# Altium schematic symbol library SleepTrackerPoCSchLib.SchLib: 14 symbols
Pins are listed as number, name and electrical type; pins without a type are passive.

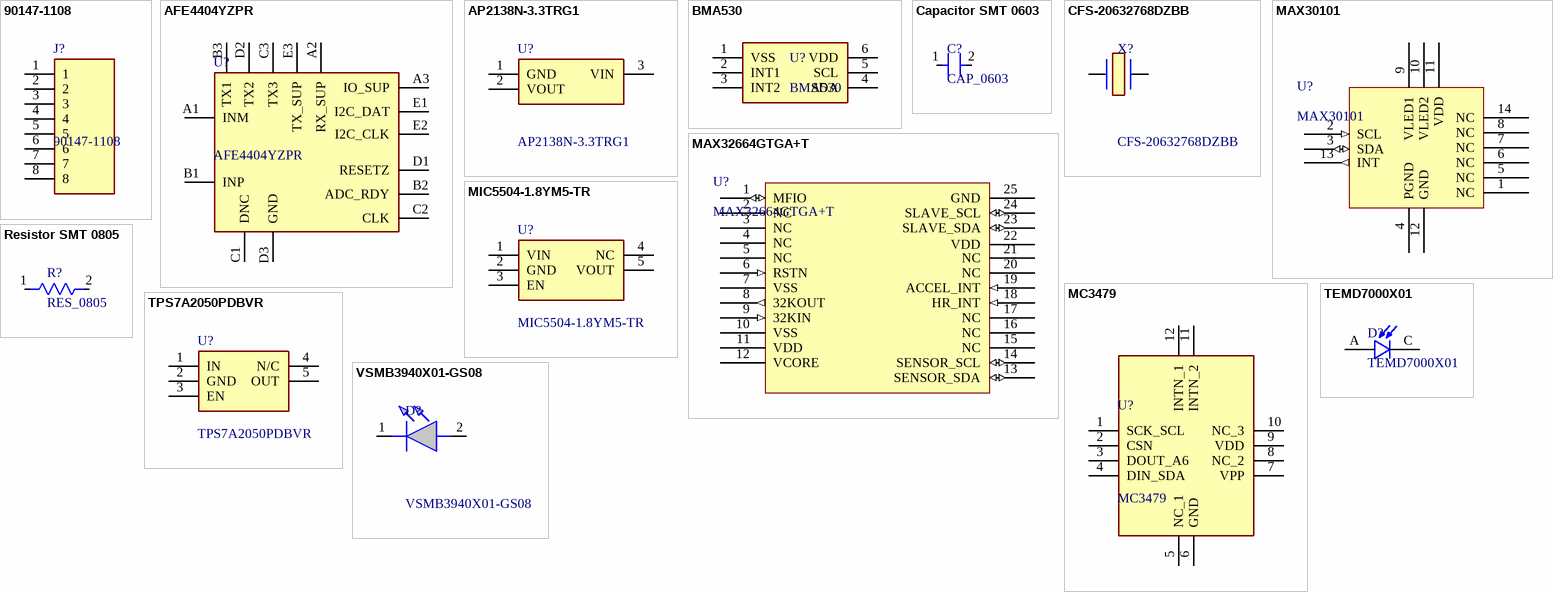
[diagram p0: symbols 90147-1108 to VSMB3940X01-GS08]

## 90147-1108
designator J?
Headers & Wire Housings 8CKT VERT SR CON; Manufacturer_Name: Molex; Geometry.Height: 8.7mm; Mouser Part Number: 538-90147-1108; Mouser Price/Stock: https://www.mouser.co.uk/ProductDetail/Molex/90147-1108?qs=QESXi79X%252BKqiwXr7kUdEeg%3D%3D; Manufacturer_Part_Number: 90147-1108; Datasheet Link: https://www.molex.com/pdm_docs/sd/901471102_sd.pdf
footprint RHDR8W70P0X254_1X8_2017X244X870P
pins: 1, 2, 3, 4, 5, 6, 7, 8

## AFE4404YZPR
designator U?
Ultra-Small Integrated AFE for Wearable, Optical Heart-Rate Monitoring and Biosensing; Manufacturer_Name: Texas Instruments; Geometry.Height: 0.5mm; Manufacturer_Part_Number: AFE4404YZPR; Datasheet Link: http://www.ti.com/lit/gpn/AFE4404
footprint BGA15C50P3X5_160X260X50
pins: A1 INM, A2 RX_SUP, A3 IO_SUP, B1 INP, B2 ADC_RDY, B3 TX1, C1 DNC, C2 CLK, C3 TX3, D1 RESETZ, D2 TX2, D3 GND, E1 I2C_DAT, E2 I2C_CLK, E3 TX_SUP

## AP2138N-3.3TRG1
designator U?
250mA 3.3V Ultra Low IQ LDO Reg. SOT23 DiodesZetex AP2138N-3.3TRG1, Low Noise LDO Voltage Regulator, 250 (Min)mA, 3.3 V +/-2%, 2.5 to 6.6 Vin, 3-Pin SOT-23; Manufacturer_Name: Diodes Incorporated; Geometry.Height: 1.45mm; Mouser Part Number: 621-AP2138N-3.3TRG1; Mouser Price/Stock: https://www.mouser.co.uk/ProductDetail/Diodes-Incorporated/AP2138N-3.3TRG1?qs=x6A8l6qLYDBcz2C%2Fey6rCQ%3D%3D; Manufacturer_Part_Number: AP2138N-3.3TRG1; Datasheet Link: https://www.diodes.com//assets/Datasheets/AP2138-9.pdf
footprint SOT95P282X145-3N
pins: 1 GND, 2 VOUT, 3 VIN

## BMA530
designator U?
Bosch BMA530 Accelerometer; Manufacturer: Bosch; Manufacturer Part Number: BMA530
footprint BMA530
pins: 1 VSS, 2 INT1, 3 INT2, 4 SDA, 5 SCL, 6 VDD

## Capacitor SMT 0603
designator C?, comment CAP_0603
Manufacturer: *; Manufacturer Part Number: *; Tolerance: *; Package Sizing: *; Voltage Rating: *
footprint CAP_0603 (Chip Capacitor, 2-Leads, Body 1.60x0.80mm, IPC Medium Density)
pins: 1, 2

## CFS-20632768DZBB
designator X?
32.768 kHz +/-20ppm Crystal 6pF 35 kOhms Cylindrical Can, Radial; Manufacturer_Name: CITIZEN FINEDEVICE; Geometry.Height: 6.2mm; Mouser Part Number: 695-CFS-20632768DZBB; Mouser Price/Stock: https://www.mouser.co.uk/ProductDetail/Citizen-FineDevice/CFS-20632768DZBB?qs=byeeYqUIh0PqzGU2nG5Zjg%3D%3D; Manufacturer_Part_Number: CFS-20632768DZBB; Datasheet Link: http://cfd.citizen.co.jp/cms/cfd/pdf/english/CFS-206_CFS-145_E.pdf
footprint CFS20632768DZBB
pins: 1, 2

## MAX30101
designator U?
Maxim Integrated MAX30101 Oximetry Sensor
footprint MAX30101 (SON, 14-Leads, Body 5.50x3.20mm, Pitch 0.80mm, IPC Medium Density)
pins: 1 NC, 2 SCL (in), 3 SDA (io), 4 PGND (power), 5 NC, 6 NC, 7 NC, 8 NC, 9 VLED1 (power), 10 VLED2 (power), 11 VDD (power), 12 GND (power), 13 INT (out), 14 NC

## MAX32664GTGA+T
designator U?
Maxim Integrated MAX32664GTGA+T Sensor Hub
footprint MAX32664 (QFN, 28-Leads, Body 3.00x3.00mm, Pitch 0.40mm, Thermal Pad 1.70x1.70mm, IPC Medium Density)
pins: 1 MFIO (io), 2 NC, 3 NC, 4 NC, 5 NC, 6 RSTN (in), 7 VSS (power), 8 32KOUT (out), 9 32KIN (in), 10 VSS (power), 11 VDD (power), 12 VCORE (power), 13 SENSOR_SDA (io), 14 SENSOR_SCL (io), 15 NC, 16 NC, 17 NC, 18 HR_INT (in), 19 ACCEL_INT (in), 20 NC, 21 NC, 22 VDD (power), 23 SLAVE_SDA (io), 24 SLAVE_SCL (io), 25 GND (power)

## MC3479
designator U?
Accelerometers Small Digital 3-axis Accelerometer Sensor; Manufacturer_Name: MEMSIC; Geometry.Height: 1mm; Mouser Part Number: 498-MC3479; Mouser Price/Stock: https://www.mouser.co.uk/ProductDetail/MEMSIC/MC3479?qs=OlC7AqGiEDmYmlaMvA9fTA%3D%3D; Manufacturer_Part_Number: MC3479; Datasheet Link: http://www.memsic.com/uploadfiles/2020/08/20200827164636363.pdf
footprint MC3479
pins: 1 SCK_SCL, 2 CSN, 3 DOUT_A6, 4 DIN_SDA, 5 NC_1, 6 GND, 7 VPP, 8 NC_2, 9 VDD, 10 NC_3, 11 INTN_2, 12 INTN_1

## MIC5504-1.8YM5-TR
designator U?
Linear Voltage Regulator IC Positive Fixed Output 1.8V 300mA SOT-23-5; Manufacturer_Name: Microchip; Geometry.Height: 1.45mm; Mouser Part Number: 998-MIC5504-1.8YM5TR; Mouser Price/Stock: https://www.mouser.co.uk/ProductDetail/Microchip-Technology/MIC5504-1.8YM5-TR?qs=U6T8BxXiZAWcKt0MaB%252BQvA%3D%3D; Manufacturer_Part_Number: MIC5504-1.8YM5-TR; Datasheet Link: http://www.microchip.com/mymicrochip/filehandler.aspx?ddocname=en580292
footprint SOT95P280X145-5N
pins: 1 VIN, 2 GND, 3 EN, 4 NC, 5 VOUT

## Resistor SMT 0805
designator R?, comment RES_0805
Manufacturer: *; Manufacturer Part Number: *; Tolerance: *; Package Sizing: *; Voltage Rating: *
footprint RES_0805
pins: 1, 2

## TEMD7000X01
designator D?
Photodiode 900nm 100ns 120Â° 0805 (2012 Metric); MF: Vishay Semiconductor; Price: None; Purchase-URL: https://pricing.snapeda.com/search/part/TEMD7000X01/?ref=eda; Value: *; Check_prices: https://www.snapeda.com/parts/TEMD7000X01/Vishay+Semiconductor+Opto+Division/view-part/?ref=eda; Package: 0805 Vishay; SnapEDA_Link: https://www.snapeda.com/parts/TEMD7000X01/Vishay+Semiconductor+Opto+Division/view-part/?ref=snap; Availability: In Stock; MP: TEMD7000X01
footprint XDCR_TEMD7000X01
pins: A, C

## TPS7A2050PDBVR
designator U?
LDO Voltage Regulators 300-mA, ultra-low-noise, low-IQ, low-dropout (LDO) linear regulator with high PSRR; Manufacturer_Name: Texas Instruments; Geometry.Height: 1.45mm; Mouser Part Number: 595-TPS7A2050PDBVR; Mouser Price/Stock: https://www.mouser.co.uk/ProductDetail/Texas-Instruments/TPS7A2050PDBVR?qs=hd1VzrDQEGgpoyZ%2F5FZYnQ%3D%3D; Manufacturer_Part_Number: TPS7A2050PDBVR; Datasheet Link: https://www.ti.com/lit/gpn/tps7a20?HQS=ti-null-null-sf-df-pf-sep-wwe&DCM=yes
footprint SOT95P280X145-5N
pins: 1 IN, 2 GND, 3 EN, 4 N/C, 5 OUT

## VSMB3940X01-GS08
designator D?
Vishay VSMB3940X01-GS08, 940nm IR LED, PLCC 2 SMD package; Geometry.Height: 1.85mm; Manufacturer_Name: Vishay; Manufacturer_Part_Number: VSMB3940X01-GS08; Datasheet Link: https://www.vishay.com/docs/81894/vsmb3940.pdf
footprint LEDM3528X185N
pins: 1 K, 2 A